# EAGLE library part MICROFJ-30035-TSV-TR (library MICROFJ-30035-TSV-TR)
High-density microcells; Optimized for high-performance timing applications, such as ToF-PET; Ultra-low dark count rates of 50 kHz/mm2 typical; J-Series sensors feature ON Semiconductor's unique 'fast output' terminal; Exceptional breakdown voltage uniformity of +/-250 mV; Temperature stability of 21.5 mV/C; 3 mm, 4 mm and 6 mm sensor sizes; Available in a reflow solder compatible TSV chip-scale package; Bias voltage of <30 V Source: Datasheet <https://www.onsemi.com/pub/Collateral/MICROJ-SERIES-D.PDF>
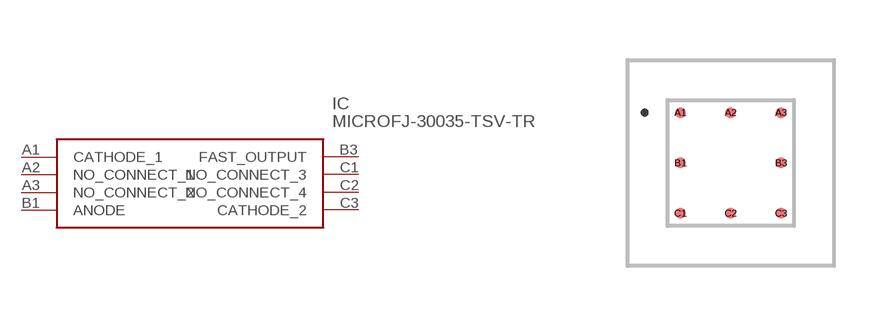
[diagram p0: symbol with the pads of MICROFJ30035TSVTR; footprint MICROFJ30035TSVTR]

Designator prefix IC

## MICROFJ-30035-TSV-TR (Arrow_Part_Number: MICROFJ-30035-TSV-TR; Arrow_Price-Stock: https://www.arrow.com/en/products/microfj-30035-tsv-tr/on-semiconductor?region=nac; Description: High-density microcells; Optimized for high-performance timing applications, such as ToF-PET; Ultra-low dark count rates of 50 kHz/mm2 typical; J-Series sensors feature ON Semiconductor's unique 'fast output' terminal; Exceptional breakdown voltage uniformity of +/-250 mV; Temperature stability of 21.5 mV/C; 3 mm, 4 mm and 6 mm sensor sizes; Available in a reflow solder compatible TSV chip-scale package; Bias voltage of <30 V; Height: 0.69mm; Manufacturer_Name: onsemi; Manufacturer_Part_Number: MICROFJ-30035-TSV-TR; Mouser_Part_Number: 863-MFJ30035TSVTR; Mouser_Price-Stock: https://www.mouser.co.uk/ProductDetail/onsemi/MICROFJ-30035-TSV-TR?qs=byeeYqUIh0NWig1VlbDyxw%3D%3D)  [MICROFJ30035TSVTR]
A1  CATHODE_1
A2  NO_CONNECT_1
A3  NO_CONNECT_2
B1  ANODE
B3  FAST_OUTPUT
C1  NO_CONNECT_3
C2  NO_CONNECT_4
C3  CATHODE_2

## Footprint MICROFJ30035TSVTR (pad centres in mm)
MICROFJ-30035-TSV-TR-11
smd 0.27 x 0.27: A1 -1.26,1.26; A2 0,1.26; A3 1.26,1.26; B1 -1.26,0; B3 1.26,0; C1 -1.26,-1.26; C2 0,-1.26; C3 1.26,-1.26